# EAGLE library part PPPC141LFBN-RC (library 2024-11-01_20-08-43_Library)
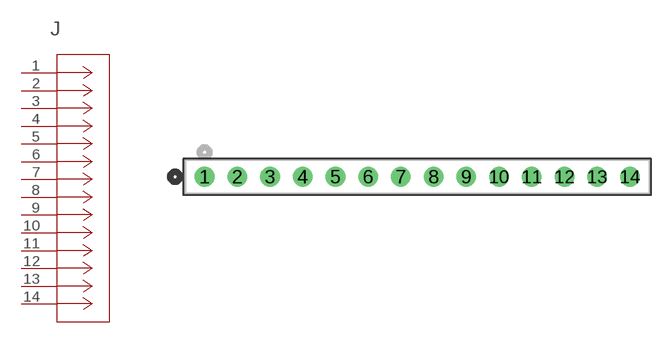
[diagram p0: symbol with the pads of CONN14_PPPN141_SUL; footprint CONN14_PPPN141_SUL]

Designator prefix J

## PPPC141LFBN-RCCONN14_PPPN141_SUL (Copyright: Copyright (C) 2024 Ultra Librarian. All rights reserved.; Manufacturer_Part_Number: PPPC141LFBN-RC; Mfr_Name: Sullins; Type: Headers, Receptacles, Female Sockets)  [CONN14_PPPN141_SUL]
1  1  pas
2  2  pas
3  3  pas
4  4  pas
5  5  pas
6  6  pas
7  7  pas
8  8  pas
9  9  pas
10  10  pas
11  11  pas
12  12  pas
13  13  pas
14  14  pas

## Footprint CONN14_PPPN141_SUL (pad centres in mm)
drill 1.016 pad 1.524 round: 1 0,0; 2 2.54,0; 3 5.08,0; 4 7.62,0; 5 10.16,0; 6 12.7,0; 7 15.24,0; 8 17.78,0; 9 20.32,0; 10 22.86,0; 11 25.4,0; 12 27.94,0; 13 30.48,0; 14 33.02,0